# Altium schematic symbol library AD7194.Schlib: 1 symbol
Pins are listed as number, name and electrical type; pins without a type are passive.

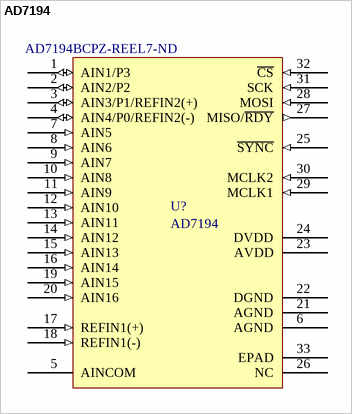
[diagram p0: symbol AD7194]

## AD7194
designator U?  Supplier Part Number 1: AD7194BCPZ-REEL7-ND
24-bit sigma-delta ADC; Supplier 1: Digi-Key
footprint QFN50P500X500X100-33 (QFN + Pitch P + Body With X Body Length X Height - #Pins)
pins: 1 AIN1/P3 (io), 2 AIN2/P2 (io), 3 AIN3/P1/REFIN2(+) (io), 4 AIN4/P0/REFIN2(-) (io), 5 AINCOM (power), 6 AGND (power), 7 AIN5 (in), 8 AIN6 (in), 9 AIN7 (in), 10 AIN8 (in), 11 AIN9 (in), 12 AIN10 (in), 13 AIN11 (in), 14 AIN12 (in), 15 AIN13 (in), 16 AIN14 (in), 17 REFIN1(+) (in), 18 REFIN1(-) (in), 19 AIN15 (in), 20 AIN16 (in), 21 AGND (power), 22 DGND (power), 23 AVDD (power), 24 DVDD (power), 25 ~{SYNC} (in), 26 NC, 27 MISO/~{RDY} (out), 28 MOSI (in), 29 MCLK1 (in), 30 MCLK2 (in), 31 SCK (in), 32 ~{CS} (in), 33 EPAD